# Altium schematic symbol library SCH - CONNECTORS - AMPHENOL - RJE392886410.SCHLIB: 1 symbol
Pins are listed as number, name and electrical type; pins without a type are passive.

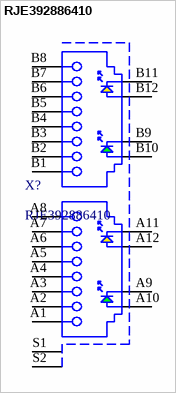
[diagram p0: symbol RJE392886410]

## RJE392886410
designator X?
2Port RJ45 Connector; Manufacturer Name: Amphenol; Datasheet Link: https://cdn.amphenol-icc.com/media/wysiwyg/files/drawing/rje392886xx0.pdf; Height: 13.2mm; Manufacturer Part Number: RJE392886410; Mouser Part Number: 523-RJE392886410; Mouser Price/Stock: https://www.mouser.co.uk/ProductDetail/Amphenol-Commercial-Products/RJE392886410/?qs=vLWxofP3U2w6Bqqg8GuTBA%3D%3D; Arrow Part Number: RJE392886410; Arrow Price/Stock: https://www.arrow.com/en/products/rje392886410/amphenol-fci
pins: A1, A2, A3, A4, A5, A6, A7, A8, A9 K_1, A10 A_1, A11 K_2, A12 A_2, B1, B2, B3, B4, B5, B6, B7, B8, B9 K_3, B10 A_3, B11 K_4, B12 A_4, S1, S2